# Altium footprint library SON123_1.PcbLib: 1 footprints
Each footprint in its own frame and in the unit in brackets; x right, y up, seen from the top. Pads: shape width x height; smd on the part's side, far side on the other; paste and mask are expansions set on the pad; w line width, h text height; cw(c..) or ccw(c..) is an arc to the next point about the centre after c.
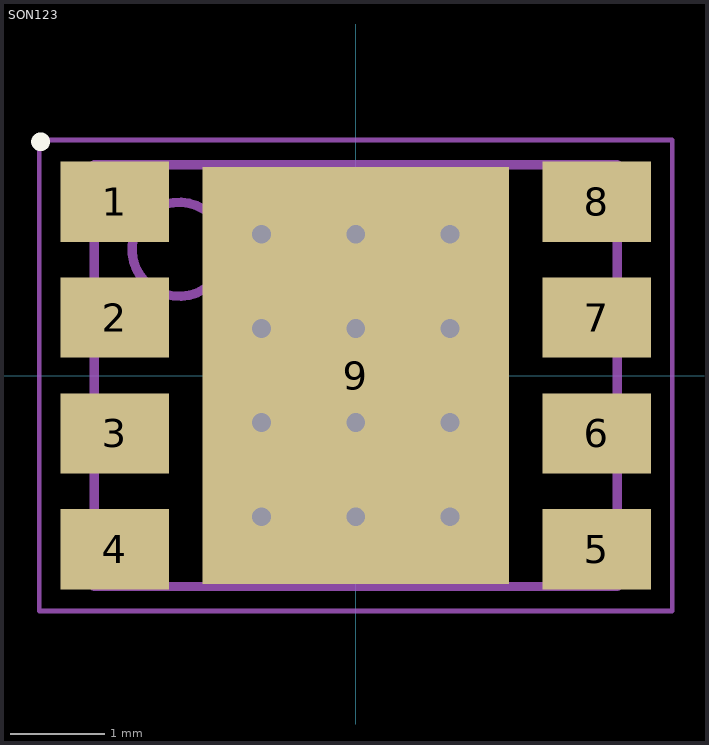
[diagram p0: the footprint, top view; thin cyan lines are the x and y axes]

## SON123 [mm] "SON, 8-Leads, Body 4.48x5.55mm, Pitch 1.23mm, Thermal Pad 4.43x3.25mm, IPC Medium Density"
height 0.38
pads (9):
  rect 1.15x0.85 smd: 1(-2.56,1.845) 2(-2.56,0.615) 3(-2.56,-0.615) 4(-2.56,-1.845) 5(2.56,-1.845) 6(2.56,-0.615) 7(2.56,0.615) 8(2.56,1.845)
  rect 3.25x4.43 smd paste-1.625: 9(0,0)
via 1,-1.5 diameter 0.5 hole 0.2
via 0,-1.5 diameter 0.5 hole 0.2
via -1,-1.5 diameter 0.5 hole 0.2
via 1,-0.5 diameter 0.5 hole 0.2
via 0,-0.5 diameter 0.5 hole 0.2
via -1,-0.5 diameter 0.5 hole 0.2
via 1,0.5 diameter 0.5 hole 0.2
via 0,0.5 diameter 0.5 hole 0.2
via -1,0.5 diameter 0.5 hole 0.2
via 1,1.5 diameter 0.5 hole 0.2
via 0,1.5 diameter 0.5 hole 0.2
via -1,1.5 diameter 0.5 hole 0.2
Top Overlay:
  circle w0.1: c-3.347,2.482 r0.05
Top Paste:
  rectangle: 0.64,-2.12 1.52,-0.84
  rectangle: 0.64,-0.64 1.52,0.64
  rectangle: 0.64,0.84 1.52,2.12
  rectangle: -0.44,-2.12 0.44,-0.84
  rectangle: -0.44,-0.64 0.44,0.64
  rectangle: -0.44,0.84 0.44,2.12
  rectangle: -1.52,-2.12 -0.64,-0.84
  rectangle: -1.52,-0.64 -0.64,0.64
  rectangle: -1.52,0.84 -0.64,2.12
Mechanical 13:
  circle w0.1: c-1.875,1.34 r0.5
  lines w0.1: -2.775,-2.24 2.775,-2.24 2.775,2.24 -2.775,2.24 -2.775,-2.24
Mechanical 15:
  lines w0.05: -3.36,-2.5 3.36,-2.5 3.36,2.5 -3.36,2.5 -3.36,-2.5
  lines w0.1: -0.5,0 0.5,0 ; 0,-0.5 0,0.5
3D body "SON123.step": height 1, standoff 0, extent -3.775,-2.28 3.775,2.28